# Altium footprint library WPME-LDHM.PcbLib: 1 footprints
Each footprint in its own frame and in the unit in brackets; x right, y up, seen from the top. Pads: shape width x height; smd on the part's side, far side on the other; paste and mask are expansions set on the pad; w line width, h text height; cw(c..) or ccw(c..) is an arc to the next point about the centre after c.
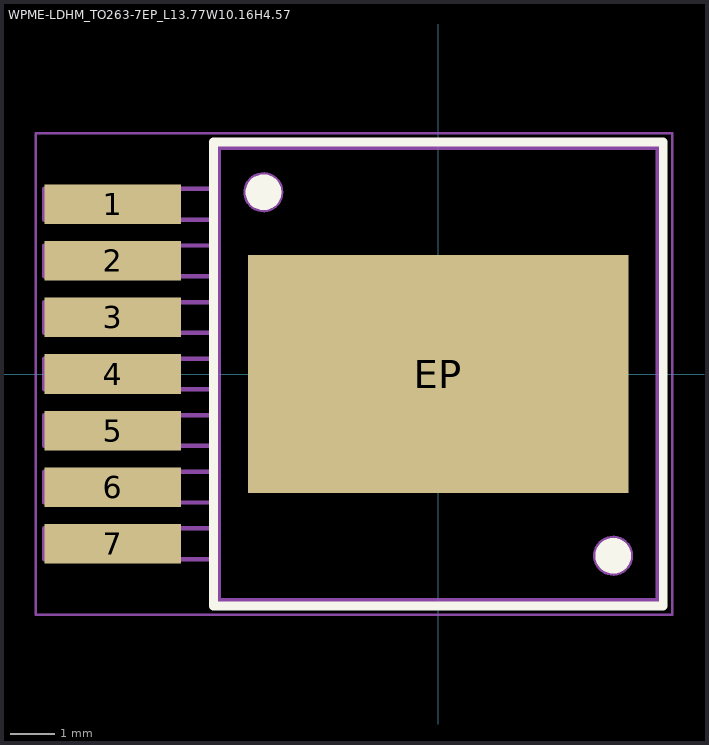
[diagram p0: the footprint, top view; thin cyan lines are the x and y axes]

## WPME-LDHM_TO263-7EP_L13.77W10.16H4.57 [mm] "LED Step Down High Current Module, TO236-7EP. body 13.77x10.16mm"
height 4.67
pads (8):
  rect 3.06x0.89 smd: 1(-7.305,3.81) 2(-7.305,2.54) 3(-7.305,1.27) 4(-7.305,0) 5(-7.305,-1.27) 6(-7.305,-2.54) 7(-7.305,-3.81)
  rect 8.54x5.35 smd paste-10: EP(0,0)
Top Overlay:
  circle w0.4: c-3.925,4.08 r0.2
  circle w0.4: c3.925,-4.08 r0.2
  lines w0.2: -5.05,-5.205 -5.05,5.205 5.05,5.205 5.05,-5.205 -5.05,-5.205
Top Paste:
  region: -3.925,-1.39 -2.975,-1.39 -2.975,-2.48 -3.925,-2.48
  region: -2.775,-1.39 -1.825,-1.39 -1.825,-2.48 -2.775,-2.48
  region: -1.625,-1.39 -0.675,-1.39 -0.675,-2.48 -1.625,-2.48
  region: -0.475,-1.39 0.475,-1.39 0.475,-2.48 -0.475,-2.48
  region: 0.675,-1.39 1.625,-1.39 1.625,-2.48 0.675,-2.48
  region: 1.825,-1.39 2.775,-1.39 2.775,-2.48 1.825,-2.48
  region: 2.975,-1.39 3.925,-1.39 3.925,-2.48 2.975,-2.48
  region: -3.925,-0.1 -2.975,-0.1 -2.975,-1.19 -3.925,-1.19
  region: -2.775,-0.1 -1.825,-0.1 -1.825,-1.19 -2.775,-1.19
  region: -1.625,-0.1 -0.675,-0.1 -0.675,-1.19 -1.625,-1.19
  region: -0.475,-0.1 0.475,-0.1 0.475,-1.19 -0.475,-1.19
  region: 0.675,-0.1 1.625,-0.1 1.625,-1.19 0.675,-1.19
  region: 1.825,-0.1 2.775,-0.1 2.775,-1.19 1.825,-1.19
  region: 2.975,-0.1 3.925,-0.1 3.925,-1.19 2.975,-1.19
  region: -3.925,1.19 -2.975,1.19 -2.975,0.1 -3.925,0.1
  region: -2.775,1.19 -1.825,1.19 -1.825,0.1 -2.775,0.1
  region: -1.625,1.19 -0.675,1.19 -0.675,0.1 -1.625,0.1
  region: -0.475,1.19 0.475,1.19 0.475,0.1 -0.475,0.1
  region: 0.675,1.19 1.625,1.19 1.625,0.1 0.675,0.1
  region: 1.825,1.19 2.775,1.19 2.775,0.1 1.825,0.1
  region: 2.975,1.19 3.925,1.19 3.925,0.1 2.975,0.1
  region: 2.975,2.48 3.925,2.48 3.925,1.39 2.975,1.39
  region: 1.825,2.48 2.775,2.48 2.775,1.39 1.825,1.39
  region: 0.675,2.48 1.625,2.48 1.625,1.39 0.675,1.39
  region: -0.475,2.48 0.475,2.48 0.475,1.39 -0.475,1.39
  region: -1.625,2.48 -0.675,2.48 -0.675,1.39 -1.625,1.39
  region: -2.775,2.48 -1.825,2.48 -1.825,1.39 -2.775,1.39
  region: -3.925,2.48 -2.975,2.48 -2.975,1.39 -3.925,1.39
Top Designator:
  text ".Designator" at -7.498,-0.5 h1.5
Top Component Outline:
  circle w0.1: c3.925,-4.08 r0.4
  circle w0.1: c-3.925,4.08 r0.4
  lines w0.1: -4.925,-4.155 -8.845,-4.155 -8.845,-3.465 -4.925,-3.465 ; -4.925,-2.885 -8.845,-2.885 -8.845,-2.195 -4.925,-2.195 ; -4.925,-1.615 -8.845,-1.615 -8.845,-0.925 -4.925,-0.925 ; -4.925,-0.345 -8.845,-0.345 -8.845,0.345 -4.925,0.345 ; -4.925,0.925 -8.845,0.925 -8.845,1.615 -4.925,1.615 ; -4.925,2.195 -8.845,2.195 -8.845,2.885 -4.925,2.885 ; -4.925,3.465 -8.845,3.465 -8.845,4.155 -4.925,4.155 ; -4.925,-5.08 -4.925,5.08 4.925,5.08 4.925,-5.08 -4.925,-5.08
Top 3D Body:
  circle w0.1: c-3.925,4.08 r0.4
  circle w0.1: c3.925,-4.08 r0.4
  lines w0.1: -4.925,-4.155 -8.845,-4.155 -8.845,-3.465 -4.925,-3.465 ; -4.925,-2.885 -8.845,-2.885 -8.845,-2.195 -4.925,-2.195 ; -4.925,-1.615 -8.845,-1.615 -8.845,-0.925 -4.925,-0.925 ; -4.925,-0.345 -8.845,-0.345 -8.845,0.345 -4.925,0.345 ; -4.925,0.925 -8.845,0.925 -8.845,1.615 -4.925,1.615 ; -4.925,2.195 -8.845,2.195 -8.845,2.885 -4.925,2.885 ; -4.925,3.465 -8.845,3.465 -8.845,4.155 -4.925,4.155 ; -4.925,-5.08 -4.925,5.08 4.925,5.08 4.925,-5.08 -4.925,-5.08
Top Courtyard:
  lines w0.05: -0.5,0 0.5,0 ; 0,-0.5 0,0.5 ; -9.035,-5.405 -9.035,5.405 5.25,5.405 5.25,-5.405 -9.035,-5.405
3D body "MagIC-LDHM_TO263-7EP_LDHM (rev1).stp": height 4.77, standoff 0, extent -8.845,-5.08 4.925,5.08